# EAGLE library part AD7193 (library analog-devices)
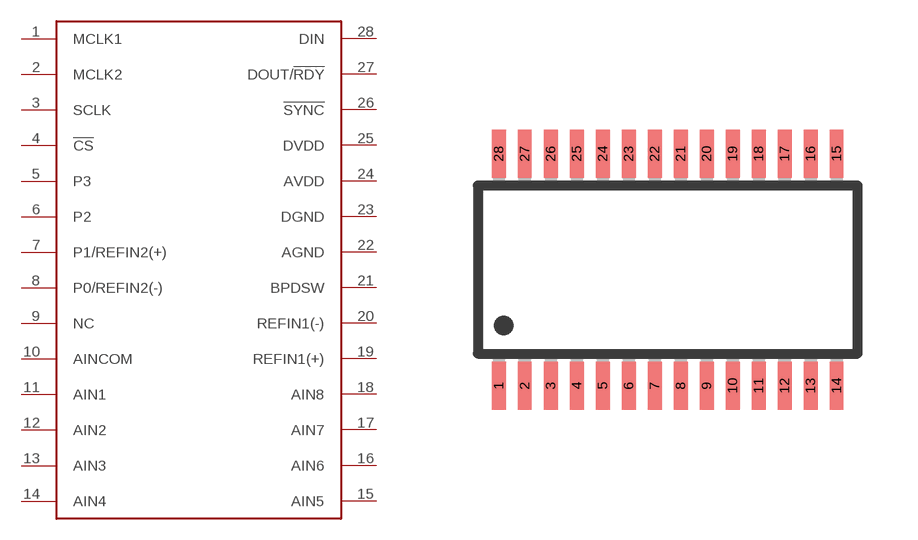
[diagram p150: symbol with the pads of TSSOP28; footprint TSSOP28]

Designator prefix -

## AD7193  [TSSOP28]
1  MCLK1
2  MCLK2
3  SCLK
4  !CS
5  P3
6  P2
7  P1/REFIN2(+)
8  P0/REFIN2(-)
9  NC
10  AINCOM
11  AIN1
12  AIN2
13  AIN3
14  AIN4
15  AIN5
16  AIN6
17  AIN7
18  AIN8
19  REFIN1(+)
20  REFIN1(-)
21  BPDSW
22  AGND
23  DGND
24  AVDD
25  DVDD
26  !SYNC
27  DOUT/!RDY
28  DIN

## Footprint TSSOP28 (pad centres in mm)
28-Lead TSSOP Package RU-28
smd 0.35 x 1.2: 1 -4.225,-2.9; 2 -3.575,-2.9; 3 -2.925,-2.9; 4 -2.275,-2.9; 5 -1.625,-2.9; 6 -0.975,-2.9; 7 -0.325,-2.9; 8 0.325,-2.9; 9 0.975,-2.9; 10 1.625,-2.9; 11 2.275,-2.9; 12 2.925,-2.9; 13 3.575,-2.9; 14 4.225,-2.9; 15 4.225,2.9; 16 3.575,2.9; 17 2.925,2.9; 18 2.275,2.9; 19 1.625,2.9; 20 0.975,2.9; 21 0.325,2.9; 22 -0.325,2.9; 23 -0.975,2.9; 24 -1.625,2.9; 25 -2.275,2.9; 26 -2.925,2.9; 27 -3.575,2.9; 28 -4.225,2.9